# Altium footprint library Vishay Sprague Tantalum Chip Capacitor.PcbLib: 22 footprints (part 2 of 2)
Each footprint in its own frame and in the unit in brackets; x right, y up, seen from the top. Pads: shape width x height; smd on the part's side, far side on the other; paste and mask are expansions set on the pad; w line width, h text height; cw(c..) or ccw(c..) is an arc to the next point about the centre after c.
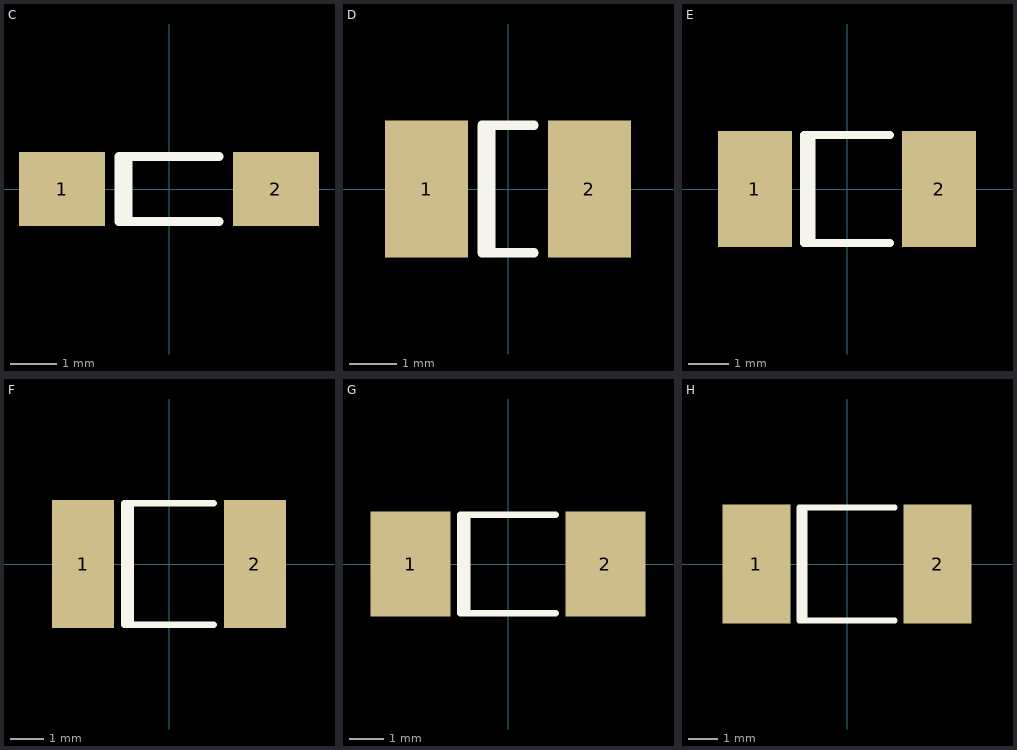
[diagram p1: the footprints below, top view; thin cyan lines are the x and y axes]

## C [mm] "Chip Capacitor; Body 5.08 x 1.27 mm (LxW typ)"
height 1.66
pads (2):
  rect 1.85x1.6 smd: 1(-2.3,0) 2(2.3,0)
Top Overlay:
  lines w0.2: -0.885,-0.7 -0.885,0.7 ; 1.075,-0.7 -1.075,-0.7 -1.075,0.7 1.075,0.7

## D [mm] "Chip Capacitor; Body 3.81 x 2.54 mm (LxW typ)"
height 1.66
pads (2):
  rect 1.75x2.9 smd: 1(-1.725,0) 2(1.725,0)
Top Overlay:
  lines w0.2: -0.36,-1.35 -0.36,1.35 ; 0.55,-1.35 -0.55,-1.35 -0.55,1.35 0.55,1.35

## E [mm] "Chip Capacitor; Body 5.08 x 2.54 mm (LxW typ)"
height 1.66
pads (2):
  rect 1.85x2.9 smd: 1(-2.3,0) 2(2.3,0)
Top Overlay:
  lines w0.2: -0.885,-1.35 -0.885,1.35 ; 1.075,-1.35 -1.075,-1.35 -1.075,1.35 1.075,1.35

## F [mm] "Chip Capacitor; Body 5.59 x 3.43 mm (LxW typ)"
height 2.16
pads (2):
  rect 1.85x3.8 smd: 1(-2.55,0) 2(2.55,0)
Top Overlay:
  lines w0.2: -1.135,-1.8 -1.135,1.8 ; 1.325,-1.8 -1.325,-1.8 -1.325,1.8 1.325,1.8

## G [mm] "Chip Capacitor; Body 6.73 x 2.79 mm (LxW typ)"
height 3.18
pads (2):
  rect 2.35x3.1 smd: 1(-2.875,0) 2(2.875,0)
Top Overlay:
  lines w0.2: -1.21,-1.45 -1.21,1.45 ; 1.4,-1.45 -1.4,-1.45 -1.4,1.45 1.4,1.45

## H [mm] "Chip Capacitor; Body 7.24 x 3.81 mm (LxW typ)"
height 3.18
pads (2):
  rect 2.35x4.1 smd: 1(-3.125,0) 2(3.125,0)
Top Overlay:
  lines w0.2: -1.46,-1.95 -1.46,1.95 ; 1.65,-1.95 -1.65,-1.95 -1.65,1.95 1.65,1.95